# EAGLE library part NACHTELK_HEADERCONNECTORS_8 (library NachtElk_HeaderConnectors)
Nacht Elk. - Header Connectors Ekrem Turan Fırat Nacht Elk. - Header Connectors 1x8 Female or Male Pin Spacing: 2.54mm Mount Type: DIP Operating Temperature: -40°C up to 105°C 17.02.2022
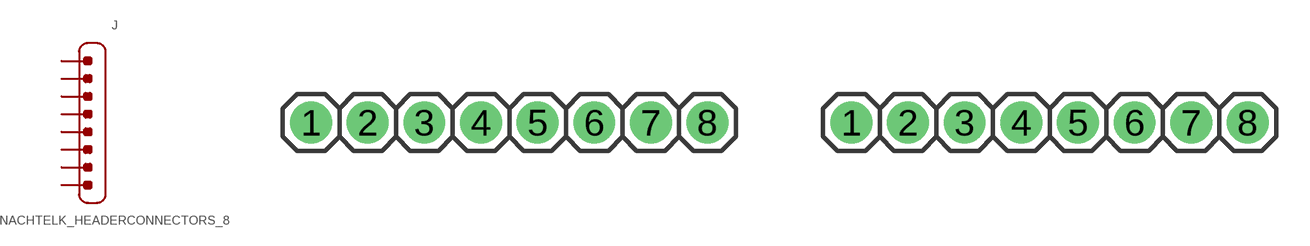
[diagram p3: symbol with the pads of HEADER_1X8F; footprints HEADER_1X8F, HEADER_1X8]

Designator prefix J

## NACHTELK_HEADERCONNECTORS_8_FEMALE (MOUNT-TYPE: DIP; TEMPERATURE: -40°C up to 105°C; TYPE: Female; VALUE: 1x8)  [HEADER_1X8F]
1  P$2
2  P$1
3  P$3
4  P$4
5  P$5
6  P$6
7  P$7
8  P$8

## NACHTELK_HEADERCONNECTORS_8_MALE (MOUNT-TYPE: DIP; TEMPERATURE: -40°C up to 105°C; TYPE: Male; VALUE: 1x8)  [HEADER_1X8]
1  P$1
2  P$2
3  P$3
4  P$4
5  P$5
6  P$6
7  P$7
8  P$8

## Footprint HEADER_1X8F (pad centres in mm)
Nacht Elk. - Header Connectors Ekrem Turan Fırat 17.02.2022
drill 1.016 pad 1.88: 1 0,0; 2 2.54,0; 3 5.08,0; 4 7.62,0; 5 10.16,0; 6 12.7,0; 7 15.24,0; 8 17.78,0

## Footprint HEADER_1X8 (pad centres in mm)
Nacht Elk. - Header Connectors Ekrem Turan Fırat 17.02.2022
drill 1.016 pad 1.88: 1 0,0; 2 2.54,0; 3 5.08,0; 4 7.62,0; 5 10.16,0; 6 12.7,0; 7 15.24,0; 8 17.78,0